# Altium footprint library arduino.PcbLib: 22 footprints (part 2 of 2)
Each footprint in its own frame and in the unit in brackets; x right, y up, seen from the top. Pads: shape width x height; smd on the part's side, far side on the other; paste and mask are expansions set on the pad; w line width, h text height; cw(c..) or ccw(c..) is an arc to the next point about the centre after c.
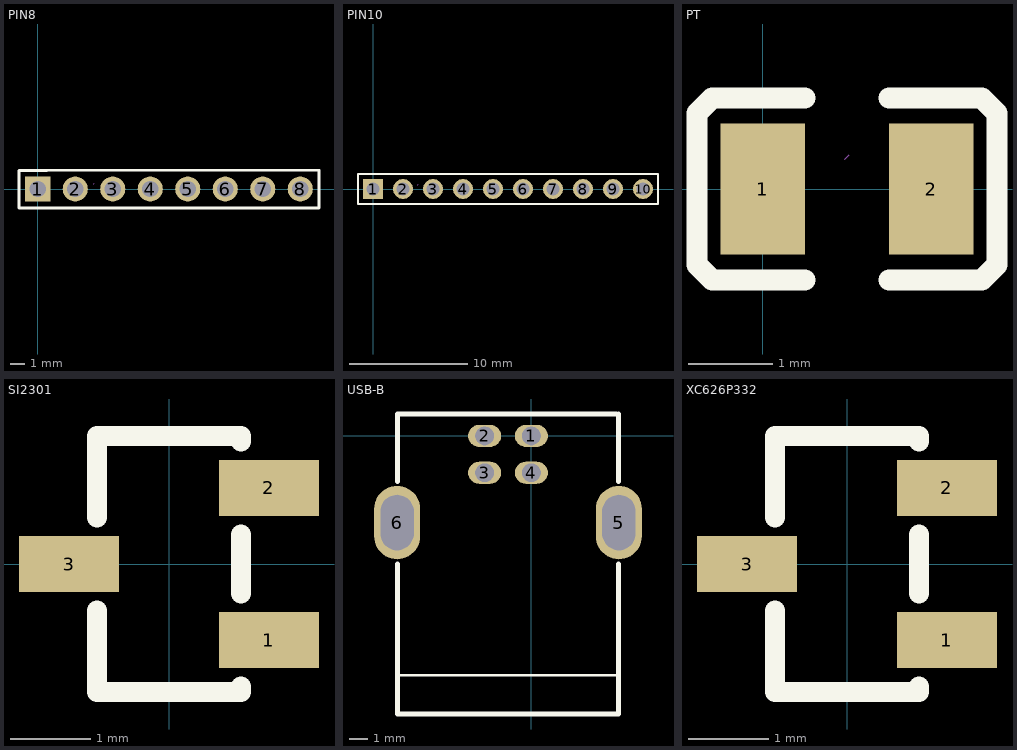
[diagram p1: the footprints below, top view; thin cyan lines are the x and y axes]

## PIN8 [mm]
pads (8):
  rect 1.7x1.7 hole 1.1: 1(0,0)
  round 1.7 hole 1.1: 2(2.54,0) 3(5.08,0) 4(7.62,0) 5(10.16,0) 6(12.7,0) 7(15.24,0) 8(17.78,0)
Top Overlay:
  lines w0.203: -1.27,-1.27 19.05,-1.27 19.05,1.27 0.635,1.27 -1.27,1.27 -1.27,-1.27
Mechanical 15:
  lines w0.003: 3.785,0.337 3.835,0.387

## PIN10 [mm]
pads (10):
  rect 1.7x1.7 hole 1.1: 1(0,0)
  round 1.7 hole 1.1: 2(2.54,0) 3(5.08,0) 4(7.62,0) 5(10.16,0) 6(12.7,0) 7(15.24,0) 8(17.78,0) 9(20.32,0) 10(22.86,0)
Top Overlay:
  lines w0.203: -1.27,-1.27 -1.27,1.27 0.635,1.27 24.13,1.27 24.13,-1.27 -1.27,-1.27
Mechanical 15:
  lines w0.003: 3.785,0.337 3.835,0.387

## PT [mm]
pads (2):
  rect 1x1.55 smd: 1(0,0) 2(2,0)
Top Overlay:
  lines w0.254: 0.5,-1.08 -0.55,-1.08 -0.6,-1.08 -0.78,-0.9 -0.78,0.9 -0.6,1.08 -0.55,1.08 0.5,1.08 ; 1.5,-1.08 2.55,-1.08 2.6,-1.08 2.78,-0.9 2.78,0.9 2.6,1.08 2.55,1.08 1.5,1.08
Mechanical 15:
  lines w0.003: 0.975,0.355 1.025,0.406

## SI2301 [mm]
pads (3):
  rect 1.25x0.7 smd: 1(1.25,-0.95) 2(1.25,0.95) 3(-1.25,0)
Top Overlay:
  lines w0.254: -0.9,-0.581 -0.9,-1.6 0.9,-1.6 0.9,-1.531 ; -0.9,0.581 -0.9,1.6 0.9,1.6 0.9,1.531 ; 0.9,-0.369 0.9,0.369

## USB-B [mm]
pads (6):
  oval 1.8x1.2 hole 1: 1(0,0) 2(-2.54,0) 3(-2.54,-2) 4(0,-2)
  oval 2.5x4 hole 1.8 slot 3 at 90 deg: 5(4.755,-4.71) 6(-7.295,-4.71)
Top Overlay:
  lines w0.127: -7.27,-13 4.73,-13
  lines w0.254: -7.27,-6.941 -7.27,-15.11 4.73,-15.11 4.73,-6.941 ; -7.27,-2.479 -7.27,1.19 4.605,1.19 ; 4.73,-2.479 4.73,1.19

## XC626P332 [mm]
pads (3):
  rect 1.25x0.7 smd: 1(1.25,-0.95) 2(1.25,0.95) 3(-1.25,0)
Top Overlay:
  lines w0.254: -0.9,-0.581 -0.9,-1.6 0.9,-1.6 0.9,-1.531 ; -0.9,0.581 -0.9,1.6 0.9,1.6 0.9,1.531 ; 0.9,-0.369 0.9,0.369